# Altium schematic symbol library SparkFun-Switches.SCHLIB: 119 symbols (part 4 of 4)
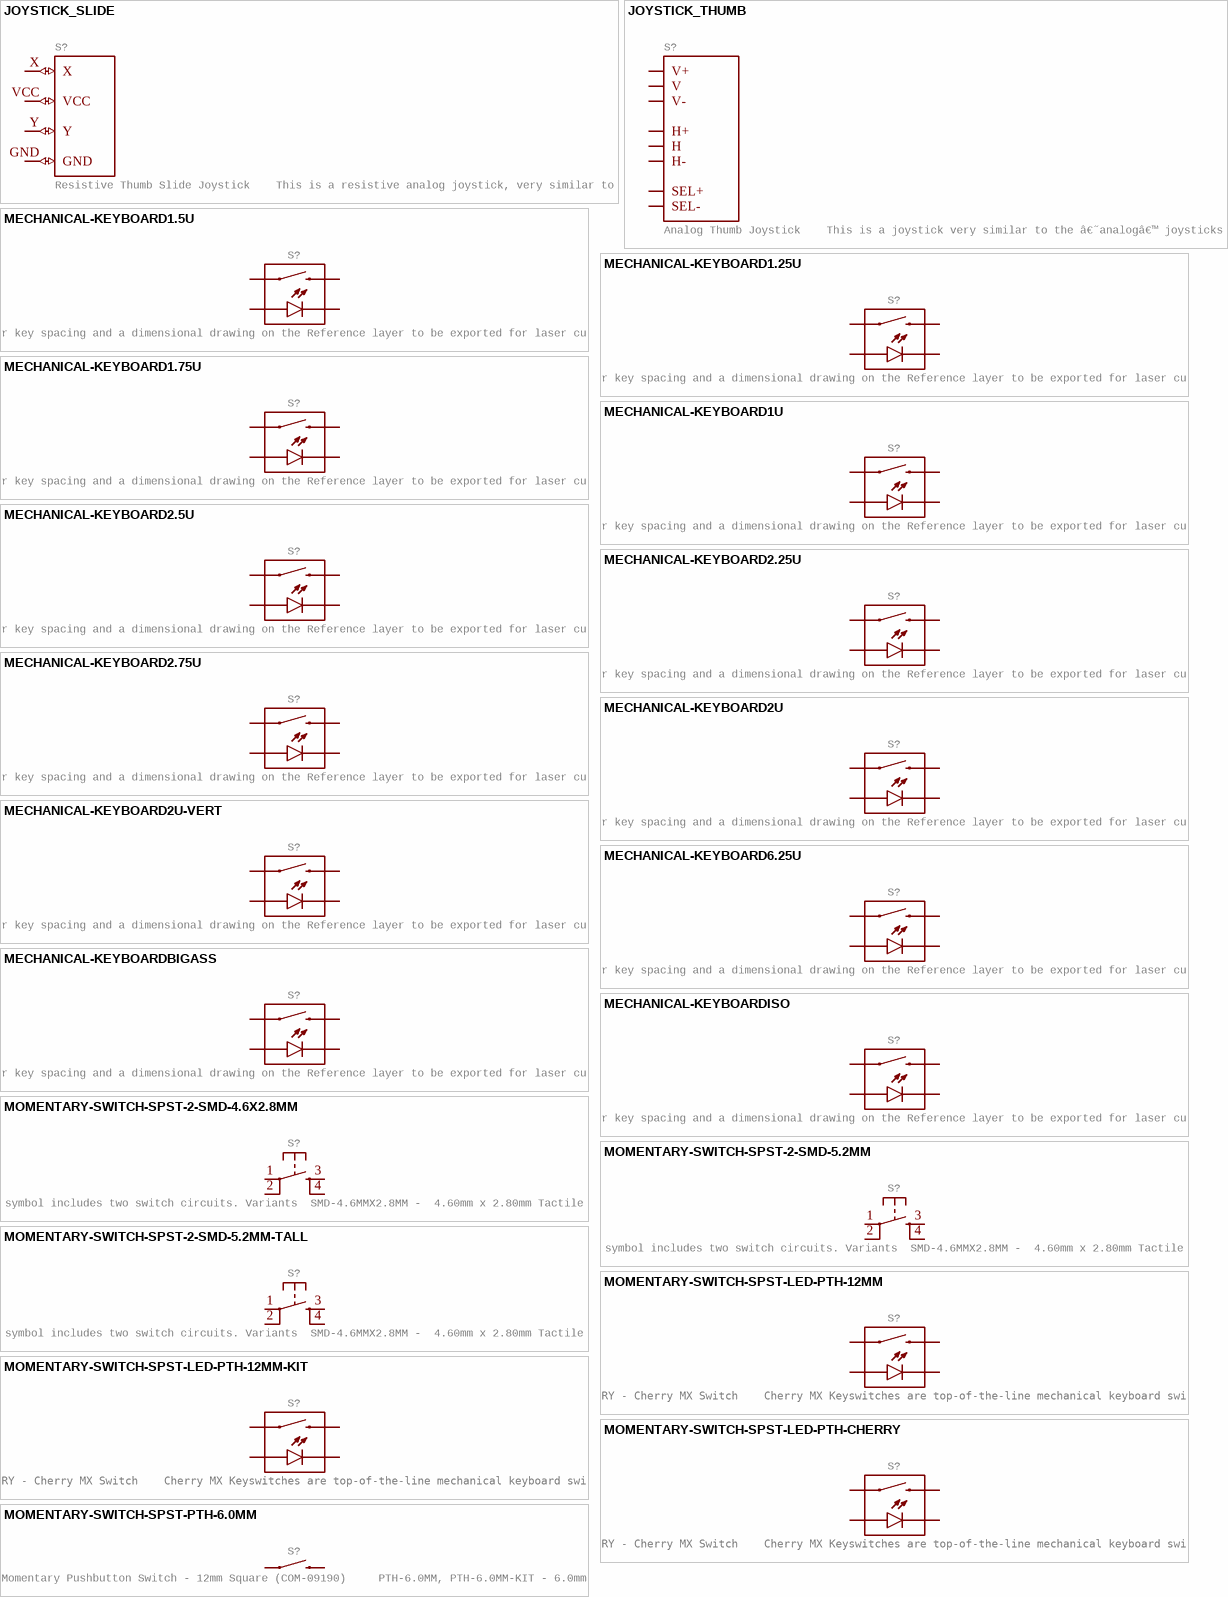
[diagram p38: symbols JOYSTICK_SLIDE to MOMENTARY-SWITCH-SPST-PTH-6.0MM]

## MOMENTARY-SWITCH-SPST-LED-PTH-12MM-KIT
designator S?, comment Momentary Switch (Pushbutton) - SPST - w/ LED    Normally-open (NO) SPST momentary switches (buttons, pushbuttons), with a built-in LED. Variants  PTH-CHERRY - Cherry MX Switch    Cherry MX Keyswitches are top-of-the-line mechanical keyboard switches. Theyâ€™re satisfyingly â€œclickyâ€, reliable up to tens-of-millions of key presses, and a standard in gaming and programming keyboards across the globe. This â€˜blueâ€™ version Cherry MX Switch is favored by most due to its secondary internal actuator making it less likely to â€œdouble-tap.â€ If you are looking for a noticeably audible and high-quality key switch, this is the perfect option for you! Cherry MX Switch (COM-13834)  Cherry MX Switch Breakout (BOB-13773)     PTH-12MM and PTH-12MM-KIT - 12mm Illuminated LED    KIT variant is for soldering kits. There is no tStop (covering up the top side of the pads with mask). This helps the beginner see which side they should be soldering too. LED Tactile Button Breakout (BOB-10467)  LED Tactile Button - Red (COM-10442)  LED Tactile Button - Blue (COM-10443)  LED Tactile Button - Green (COM-10440)  LED Tactile Button - Orange (COM-10441)  LED Tactile Button - White (COM-10439)
GateName_1: G$1; SymbolName_1: SWITCH-MOMENTARY-LED; DeviceName: -PTH-12MM-KIT; DeviceSetName: MOMENTARY-SWITCH-SPST-LED; PROD_ID: SWCH-11758; LibraryName: SparkFun-Switches; Package: TACTILE_SWITCH_LED_PTH_12MM_KIT; SF_SKU: COM-10442
footprint TACTILE_SWITCH_LED_PTH_12MM_KIT
pins: 2, 4 1, A, C

## MOMENTARY-SWITCH-SPST-LED-PTH-CHERRY
designator S?, comment Momentary Switch (Pushbutton) - SPST - w/ LED    Normally-open (NO) SPST momentary switches (buttons, pushbuttons), with a built-in LED. Variants  PTH-CHERRY - Cherry MX Switch    Cherry MX Keyswitches are top-of-the-line mechanical keyboard switches. Theyâ€™re satisfyingly â€œclickyâ€, reliable up to tens-of-millions of key presses, and a standard in gaming and programming keyboards across the globe. This â€˜blueâ€™ version Cherry MX Switch is favored by most due to its secondary internal actuator making it less likely to â€œdouble-tap.â€ If you are looking for a noticeably audible and high-quality key switch, this is the perfect option for you! Cherry MX Switch (COM-13834)  Cherry MX Switch Breakout (BOB-13773)     PTH-12MM and PTH-12MM-KIT - 12mm Illuminated LED    KIT variant is for soldering kits. There is no tStop (covering up the top side of the pads with mask). This helps the beginner see which side they should be soldering too. LED Tactile Button Breakout (BOB-10467)  LED Tactile Button - Red (COM-10442)  LED Tactile Button - Blue (COM-10443)  LED Tactile Button - Green (COM-10440)  LED Tactile Button - Orange (COM-10441)  LED Tactile Button - White (COM-10439)
GateName_1: G$1; SymbolName_1: SWITCH-MOMENTARY-LED; DeviceName: -PTH-CHERRY; DeviceSetName: MOMENTARY-SWITCH-SPST-LED; LibraryName: SparkFun-Switches; Package: CHERRY-MX-LED; SF_ID: COM-13834
footprint CHERRY-MX-LED
pins: A, K C, S1 1, S2 2

## MOMENTARY-SWITCH-SPST-PTH-6.0MM
designator S?, comment Momentary Switch (Pushbutton) - SPST    Normally-open (NO) SPST momentary switches (buttons, pushbuttons). Variants  PTH-12MM - 12mm square, through-hole  Momentary Pushbutton Switch - 12mm Square (COM-09190)     PTH-6.0MM, PTH-6.0MM-KIT - 6.0mm square, through-hole  Mini Pushbutton Switch (COM-00097)  KIT package intended for soldering kit's - only one side of pads' copper is exposed.     PTH-RIGHT-ANGLE-KIT - Right-angle, through-hole  Right Angle Tactile Button - Used on SparkFun BigTime Watch Kit     SMD-12MM - 12mm square, surface-mount  Tactile Button - SMD (12mm) (COM-12993)  Used on SparkFun PicoBoard     SMD-4.5MM - 4.5mm Square Trackball Switch  Used on SparkFun Blackberry Trackballer Breakout     SMD-4.6MMX2.8MM -  4.60mm x 2.80mm, surface mount  Used on SparkFun Pro Micro - RP2040     SMD-5.2MM, SMD-5.2-REDUNDANT - 5.2mm square, surface-mount  Mini Pushbutton Switch - SMD (COM-08720)  Used on Arduino Pro Mini  REDUNDANT package connects both switch circuits together     SMD-6.0X3.5MM - 6.0 x 3.5mm, surface mount  Momentary Reset Switch SMD (COM-08229)     SMD-6.2MM-TALL - 6.2mm square, surface mount  Tactile Button - SMD (6mm)  Used on SparkFun Digital Sandbox     SMD-RIGHT-ANGLE - Right-angle, surface mount  Used on SparkFun Block for IntelÂ® Edison - Arduino
GateName_1: G$1; SymbolName_1: SWITCH-MOMENTARY-2; DeviceName: -PTH-6.0MM; DeviceSetName: MOMENTARY-SWITCH-SPST; PROD_ID: SWCH-08441; LibraryName: SparkFun-Switches; Package: TACTILE_SWITCH_PTH_6.0MM; SF_SKU: COM-00097
footprint TACTILE_SWITCH_PTH_6.0MM
pins: 1, 3 2

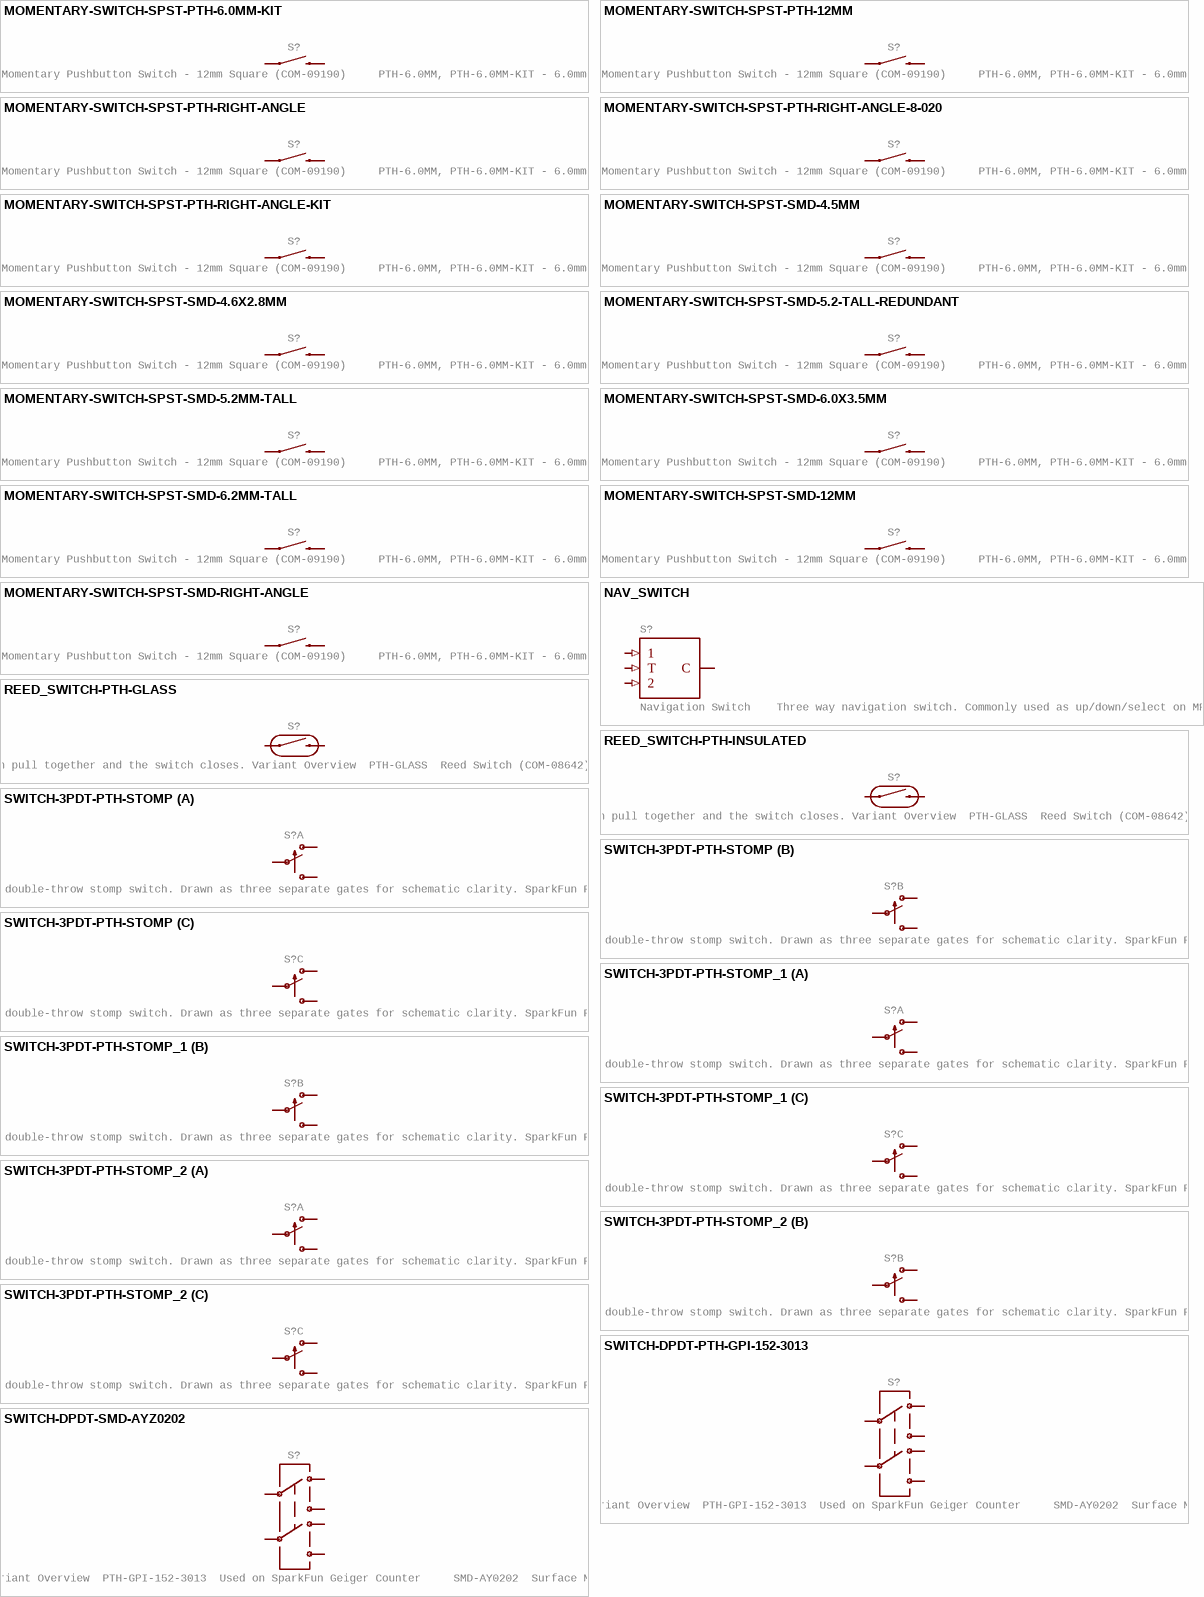
[diagram p34: symbols MOMENTARY-SWITCH-SPST-PTH-6.0MM-KIT to SWITCH-DPDT-SMD-AYZ0202]

## MOMENTARY-SWITCH-SPST-PTH-6.0MM-KIT
designator S?, comment Momentary Switch (Pushbutton) - SPST    Normally-open (NO) SPST momentary switches (buttons, pushbuttons). Variants  PTH-12MM - 12mm square, through-hole  Momentary Pushbutton Switch - 12mm Square (COM-09190)     PTH-6.0MM, PTH-6.0MM-KIT - 6.0mm square, through-hole  Mini Pushbutton Switch (COM-00097)  KIT package intended for soldering kit's - only one side of pads' copper is exposed.     PTH-RIGHT-ANGLE-KIT - Right-angle, through-hole  Right Angle Tactile Button - Used on SparkFun BigTime Watch Kit     SMD-12MM - 12mm square, surface-mount  Tactile Button - SMD (12mm) (COM-12993)  Used on SparkFun PicoBoard     SMD-4.5MM - 4.5mm Square Trackball Switch  Used on SparkFun Blackberry Trackballer Breakout     SMD-4.6MMX2.8MM -  4.60mm x 2.80mm, surface mount  Used on SparkFun Pro Micro - RP2040     SMD-5.2MM, SMD-5.2-REDUNDANT - 5.2mm square, surface-mount  Mini Pushbutton Switch - SMD (COM-08720)  Used on Arduino Pro Mini  REDUNDANT package connects both switch circuits together     SMD-6.0X3.5MM - 6.0 x 3.5mm, surface mount  Momentary Reset Switch SMD (COM-08229)     SMD-6.2MM-TALL - 6.2mm square, surface mount  Tactile Button - SMD (6mm)  Used on SparkFun Digital Sandbox     SMD-RIGHT-ANGLE - Right-angle, surface mount  Used on SparkFun Block for IntelÂ® Edison - Arduino
GateName_1: G$1; SymbolName_1: SWITCH-MOMENTARY-2; DeviceName: -PTH-6.0MM-KIT; DeviceSetName: MOMENTARY-SWITCH-SPST; PROD_ID: SWCH-08441; LibraryName: SparkFun-Switches; Package: TACTILE_SWITCH_PTH_6.0MM_KIT; SF_SKU: COM-00097
footprint TACTILE_SWITCH_PTH_6.0MM_KIT
pins: 1, 3 2

## MOMENTARY-SWITCH-SPST-PTH-12MM
designator S?, comment Momentary Switch (Pushbutton) - SPST    Normally-open (NO) SPST momentary switches (buttons, pushbuttons). Variants  PTH-12MM - 12mm square, through-hole  Momentary Pushbutton Switch - 12mm Square (COM-09190)     PTH-6.0MM, PTH-6.0MM-KIT - 6.0mm square, through-hole  Mini Pushbutton Switch (COM-00097)  KIT package intended for soldering kit's - only one side of pads' copper is exposed.     PTH-RIGHT-ANGLE-KIT - Right-angle, through-hole  Right Angle Tactile Button - Used on SparkFun BigTime Watch Kit     SMD-12MM - 12mm square, surface-mount  Tactile Button - SMD (12mm) (COM-12993)  Used on SparkFun PicoBoard     SMD-4.5MM - 4.5mm Square Trackball Switch  Used on SparkFun Blackberry Trackballer Breakout     SMD-4.6MMX2.8MM -  4.60mm x 2.80mm, surface mount  Used on SparkFun Pro Micro - RP2040     SMD-5.2MM, SMD-5.2-REDUNDANT - 5.2mm square, surface-mount  Mini Pushbutton Switch - SMD (COM-08720)  Used on Arduino Pro Mini  REDUNDANT package connects both switch circuits together     SMD-6.0X3.5MM - 6.0 x 3.5mm, surface mount  Momentary Reset Switch SMD (COM-08229)     SMD-6.2MM-TALL - 6.2mm square, surface mount  Tactile Button - SMD (6mm)  Used on SparkFun Digital Sandbox     SMD-RIGHT-ANGLE - Right-angle, surface mount  Used on SparkFun Block for IntelÂ® Edison - Arduino
GateName_1: G$1; SymbolName_1: SWITCH-MOMENTARY-2; DeviceName: -PTH-12MM; DeviceSetName: MOMENTARY-SWITCH-SPST; PROD_ID: SWCH-09185; LibraryName: SparkFun-Switches; Package: TACTILE_SWITCH_PTH_12MM; SF_SKU: COM-09190
footprint TACTILE_SWITCH_PTH_12MM
pins: 1, 3 2

## MOMENTARY-SWITCH-SPST-PTH-RIGHT-ANGLE
designator S?, comment Momentary Switch (Pushbutton) - SPST    Normally-open (NO) SPST momentary switches (buttons, pushbuttons). Variants  PTH-12MM - 12mm square, through-hole  Momentary Pushbutton Switch - 12mm Square (COM-09190)     PTH-6.0MM, PTH-6.0MM-KIT - 6.0mm square, through-hole  Mini Pushbutton Switch (COM-00097)  KIT package intended for soldering kit's - only one side of pads' copper is exposed.     PTH-RIGHT-ANGLE-KIT - Right-angle, through-hole  Right Angle Tactile Button - Used on SparkFun BigTime Watch Kit     SMD-12MM - 12mm square, surface-mount  Tactile Button - SMD (12mm) (COM-12993)  Used on SparkFun PicoBoard     SMD-4.5MM - 4.5mm Square Trackball Switch  Used on SparkFun Blackberry Trackballer Breakout     SMD-4.6MMX2.8MM -  4.60mm x 2.80mm, surface mount  Used on SparkFun Pro Micro - RP2040     SMD-5.2MM, SMD-5.2-REDUNDANT - 5.2mm square, surface-mount  Mini Pushbutton Switch - SMD (COM-08720)  Used on Arduino Pro Mini  REDUNDANT package connects both switch circuits together     SMD-6.0X3.5MM - 6.0 x 3.5mm, surface mount  Momentary Reset Switch SMD (COM-08229)     SMD-6.2MM-TALL - 6.2mm square, surface mount  Tactile Button - SMD (6mm)  Used on SparkFun Digital Sandbox     SMD-RIGHT-ANGLE - Right-angle, surface mount  Used on SparkFun Block for IntelÂ® Edison - Arduino
GateName_1: G$1; SymbolName_1: SWITCH-MOMENTARY-2; DeviceName: -PTH-RIGHT-ANGLE; DeviceSetName: MOMENTARY-SWITCH-SPST; PROD_ID: CONN-10672; SF_SKU: COM-10791; LibraryName: SparkFun-Switches; Package: TACTILE_SWITCH_PTH_RIGHT_ANGLE
footprint TACTILE_SWITCH_PTH_RIGHT_ANGLE
pins: 1, 2

## MOMENTARY-SWITCH-SPST-PTH-RIGHT-ANGLE-8-020
designator S?, comment Momentary Switch (Pushbutton) - SPST    Normally-open (NO) SPST momentary switches (buttons, pushbuttons). Variants  PTH-12MM - 12mm square, through-hole  Momentary Pushbutton Switch - 12mm Square (COM-09190)     PTH-6.0MM, PTH-6.0MM-KIT - 6.0mm square, through-hole  Mini Pushbutton Switch (COM-00097)  KIT package intended for soldering kit's - only one side of pads' copper is exposed.     PTH-RIGHT-ANGLE-KIT - Right-angle, through-hole  Right Angle Tactile Button - Used on SparkFun BigTime Watch Kit     SMD-12MM - 12mm square, surface-mount  Tactile Button - SMD (12mm) (COM-12993)  Used on SparkFun PicoBoard     SMD-4.5MM - 4.5mm Square Trackball Switch  Used on SparkFun Blackberry Trackballer Breakout     SMD-4.6MMX2.8MM -  4.60mm x 2.80mm, surface mount  Used on SparkFun Pro Micro - RP2040     SMD-5.2MM, SMD-5.2-REDUNDANT - 5.2mm square, surface-mount  Mini Pushbutton Switch - SMD (COM-08720)  Used on Arduino Pro Mini  REDUNDANT package connects both switch circuits together     SMD-6.0X3.5MM - 6.0 x 3.5mm, surface mount  Momentary Reset Switch SMD (COM-08229)     SMD-6.2MM-TALL - 6.2mm square, surface mount  Tactile Button - SMD (6mm)  Used on SparkFun Digital Sandbox     SMD-RIGHT-ANGLE - Right-angle, surface mount  Used on SparkFun Block for IntelÂ® Edison - Arduino
GateName_1: G$1; SymbolName_1: SWITCH-MOMENTARY-2; DeviceName: -PTH-RIGHT-ANGLE-8-020; DeviceSetName: MOMENTARY-SWITCH-SPST; PROD_ID: SWCH-13896; LibraryName: SparkFun-Switches; Package: TACTILE_SWITCH_PTH_RA_8-020
footprint TACTILE_SWITCH_PTH_RA_8-020
pins: 1, 2

## MOMENTARY-SWITCH-SPST-PTH-RIGHT-ANGLE-KIT
designator S?, comment Momentary Switch (Pushbutton) - SPST    Normally-open (NO) SPST momentary switches (buttons, pushbuttons). Variants  PTH-12MM - 12mm square, through-hole  Momentary Pushbutton Switch - 12mm Square (COM-09190)     PTH-6.0MM, PTH-6.0MM-KIT - 6.0mm square, through-hole  Mini Pushbutton Switch (COM-00097)  KIT package intended for soldering kit's - only one side of pads' copper is exposed.     PTH-RIGHT-ANGLE-KIT - Right-angle, through-hole  Right Angle Tactile Button - Used on SparkFun BigTime Watch Kit     SMD-12MM - 12mm square, surface-mount  Tactile Button - SMD (12mm) (COM-12993)  Used on SparkFun PicoBoard     SMD-4.5MM - 4.5mm Square Trackball Switch  Used on SparkFun Blackberry Trackballer Breakout     SMD-4.6MMX2.8MM -  4.60mm x 2.80mm, surface mount  Used on SparkFun Pro Micro - RP2040     SMD-5.2MM, SMD-5.2-REDUNDANT - 5.2mm square, surface-mount  Mini Pushbutton Switch - SMD (COM-08720)  Used on Arduino Pro Mini  REDUNDANT package connects both switch circuits together     SMD-6.0X3.5MM - 6.0 x 3.5mm, surface mount  Momentary Reset Switch SMD (COM-08229)     SMD-6.2MM-TALL - 6.2mm square, surface mount  Tactile Button - SMD (6mm)  Used on SparkFun Digital Sandbox     SMD-RIGHT-ANGLE - Right-angle, surface mount  Used on SparkFun Block for IntelÂ® Edison - Arduino
GateName_1: G$1; SymbolName_1: SWITCH-MOMENTARY-2; DeviceName: -PTH-RIGHT-ANGLE-KIT; DeviceSetName: MOMENTARY-SWITCH-SPST; PROD_ID: CONN-10672; SF_SKU: COM-10791; LibraryName: SparkFun-Switches; Package: TACTILE_SWITCH_PTH_RIGHT_ANGLE_KIT
footprint TACTILE_SWITCH_PTH_RIGHT_ANGLE_KIT
pins: 1, 2

## MOMENTARY-SWITCH-SPST-SMD-4.5MM
designator S?, comment Momentary Switch (Pushbutton) - SPST    Normally-open (NO) SPST momentary switches (buttons, pushbuttons). Variants  PTH-12MM - 12mm square, through-hole  Momentary Pushbutton Switch - 12mm Square (COM-09190)     PTH-6.0MM, PTH-6.0MM-KIT - 6.0mm square, through-hole  Mini Pushbutton Switch (COM-00097)  KIT package intended for soldering kit's - only one side of pads' copper is exposed.     PTH-RIGHT-ANGLE-KIT - Right-angle, through-hole  Right Angle Tactile Button - Used on SparkFun BigTime Watch Kit     SMD-12MM - 12mm square, surface-mount  Tactile Button - SMD (12mm) (COM-12993)  Used on SparkFun PicoBoard     SMD-4.5MM - 4.5mm Square Trackball Switch  Used on SparkFun Blackberry Trackballer Breakout     SMD-4.6MMX2.8MM -  4.60mm x 2.80mm, surface mount  Used on SparkFun Pro Micro - RP2040     SMD-5.2MM, SMD-5.2-REDUNDANT - 5.2mm square, surface-mount  Mini Pushbutton Switch - SMD (COM-08720)  Used on Arduino Pro Mini  REDUNDANT package connects both switch circuits together     SMD-6.0X3.5MM - 6.0 x 3.5mm, surface mount  Momentary Reset Switch SMD (COM-08229)     SMD-6.2MM-TALL - 6.2mm square, surface mount  Tactile Button - SMD (6mm)  Used on SparkFun Digital Sandbox     SMD-RIGHT-ANGLE - Right-angle, surface mount  Used on SparkFun Block for IntelÂ® Edison - Arduino
GateName_1: G$1; SymbolName_1: SWITCH-MOMENTARY-2; DeviceName: -SMD-4.5MM; DeviceSetName: MOMENTARY-SWITCH-SPST; PROD_ID: SWCH-09213; LibraryName: SparkFun-Switches; Package: TACTILE_SWITCH_SMD_4.5MM
footprint TACTILE_SWITCH_SMD_4.5MM
pins: 1,4 2, 2,3 1

## MOMENTARY-SWITCH-SPST-SMD-4.6X2.8MM
designator S?, comment Momentary Switch (Pushbutton) - SPST    Normally-open (NO) SPST momentary switches (buttons, pushbuttons). Variants  PTH-12MM - 12mm square, through-hole  Momentary Pushbutton Switch - 12mm Square (COM-09190)     PTH-6.0MM, PTH-6.0MM-KIT - 6.0mm square, through-hole  Mini Pushbutton Switch (COM-00097)  KIT package intended for soldering kit's - only one side of pads' copper is exposed.     PTH-RIGHT-ANGLE-KIT - Right-angle, through-hole  Right Angle Tactile Button - Used on SparkFun BigTime Watch Kit     SMD-12MM - 12mm square, surface-mount  Tactile Button - SMD (12mm) (COM-12993)  Used on SparkFun PicoBoard     SMD-4.5MM - 4.5mm Square Trackball Switch  Used on SparkFun Blackberry Trackballer Breakout     SMD-4.6MMX2.8MM -  4.60mm x 2.80mm, surface mount  Used on SparkFun Pro Micro - RP2040     SMD-5.2MM, SMD-5.2-REDUNDANT - 5.2mm square, surface-mount  Mini Pushbutton Switch - SMD (COM-08720)  Used on Arduino Pro Mini  REDUNDANT package connects both switch circuits together     SMD-6.0X3.5MM - 6.0 x 3.5mm, surface mount  Momentary Reset Switch SMD (COM-08229)     SMD-6.2MM-TALL - 6.2mm square, surface mount  Tactile Button - SMD (6mm)  Used on SparkFun Digital Sandbox     SMD-RIGHT-ANGLE - Right-angle, surface mount  Used on SparkFun Block for IntelÂ® Edison - Arduino
GateName_1: G$1; SymbolName_1: SWITCH-MOMENTARY-2; DeviceName: -SMD-4.6X2.8MM; DeviceSetName: MOMENTARY-SWITCH-SPST; PROD_ID: SWCH-15606; LibraryName: SparkFun-Switches; Package: TACTILE_SWITCH_SMD_4.6X2.8MM
footprint TACTILE_SWITCH_SMD_4.6X2.8MM
pins: 1,2 1, 3,4 2

## MOMENTARY-SWITCH-SPST-SMD-5.2-TALL-REDUNDANT
designator S?, comment Momentary Switch (Pushbutton) - SPST    Normally-open (NO) SPST momentary switches (buttons, pushbuttons). Variants  PTH-12MM - 12mm square, through-hole  Momentary Pushbutton Switch - 12mm Square (COM-09190)     PTH-6.0MM, PTH-6.0MM-KIT - 6.0mm square, through-hole  Mini Pushbutton Switch (COM-00097)  KIT package intended for soldering kit's - only one side of pads' copper is exposed.     PTH-RIGHT-ANGLE-KIT - Right-angle, through-hole  Right Angle Tactile Button - Used on SparkFun BigTime Watch Kit     SMD-12MM - 12mm square, surface-mount  Tactile Button - SMD (12mm) (COM-12993)  Used on SparkFun PicoBoard     SMD-4.5MM - 4.5mm Square Trackball Switch  Used on SparkFun Blackberry Trackballer Breakout     SMD-4.6MMX2.8MM -  4.60mm x 2.80mm, surface mount  Used on SparkFun Pro Micro - RP2040     SMD-5.2MM, SMD-5.2-REDUNDANT - 5.2mm square, surface-mount  Mini Pushbutton Switch - SMD (COM-08720)  Used on Arduino Pro Mini  REDUNDANT package connects both switch circuits together     SMD-6.0X3.5MM - 6.0 x 3.5mm, surface mount  Momentary Reset Switch SMD (COM-08229)     SMD-6.2MM-TALL - 6.2mm square, surface mount  Tactile Button - SMD (6mm)  Used on SparkFun Digital Sandbox     SMD-RIGHT-ANGLE - Right-angle, surface mount  Used on SparkFun Block for IntelÂ® Edison - Arduino
GateName_1: G$1; SymbolName_1: SWITCH-MOMENTARY-2; DeviceName: -SMD-5.2-TALL-REDUNDANT; DeviceSetName: MOMENTARY-SWITCH-SPST; PROD_ID: SWCH-14139; LibraryName: SparkFun-Switches; Package: TACTILE_SWITCH_SMD_5.2MM
footprint TACTILE_SWITCH_SMD_5.2MM
pins: 1,2 1, 3,4 2

## MOMENTARY-SWITCH-SPST-SMD-5.2MM-TALL
designator S?, comment Momentary Switch (Pushbutton) - SPST    Normally-open (NO) SPST momentary switches (buttons, pushbuttons). Variants  PTH-12MM - 12mm square, through-hole  Momentary Pushbutton Switch - 12mm Square (COM-09190)     PTH-6.0MM, PTH-6.0MM-KIT - 6.0mm square, through-hole  Mini Pushbutton Switch (COM-00097)  KIT package intended for soldering kit's - only one side of pads' copper is exposed.     PTH-RIGHT-ANGLE-KIT - Right-angle, through-hole  Right Angle Tactile Button - Used on SparkFun BigTime Watch Kit     SMD-12MM - 12mm square, surface-mount  Tactile Button - SMD (12mm) (COM-12993)  Used on SparkFun PicoBoard     SMD-4.5MM - 4.5mm Square Trackball Switch  Used on SparkFun Blackberry Trackballer Breakout     SMD-4.6MMX2.8MM -  4.60mm x 2.80mm, surface mount  Used on SparkFun Pro Micro - RP2040     SMD-5.2MM, SMD-5.2-REDUNDANT - 5.2mm square, surface-mount  Mini Pushbutton Switch - SMD (COM-08720)  Used on Arduino Pro Mini  REDUNDANT package connects both switch circuits together     SMD-6.0X3.5MM - 6.0 x 3.5mm, surface mount  Momentary Reset Switch SMD (COM-08229)     SMD-6.2MM-TALL - 6.2mm square, surface mount  Tactile Button - SMD (6mm)  Used on SparkFun Digital Sandbox     SMD-RIGHT-ANGLE - Right-angle, surface mount  Used on SparkFun Block for IntelÂ® Edison - Arduino
GateName_1: G$1; SymbolName_1: SWITCH-MOMENTARY-2; DeviceName: -SMD-5.2MM-TALL; DeviceSetName: MOMENTARY-SWITCH-SPST; PROD_ID: SWCH-14139; LibraryName: SparkFun-Switches; Package: TACTILE_SWITCH_SMD_5.2MM
footprint TACTILE_SWITCH_SMD_5.2MM
pins: 1, 3 2

## MOMENTARY-SWITCH-SPST-SMD-6.0X3.5MM
designator S?, comment Momentary Switch (Pushbutton) - SPST    Normally-open (NO) SPST momentary switches (buttons, pushbuttons). Variants  PTH-12MM - 12mm square, through-hole  Momentary Pushbutton Switch - 12mm Square (COM-09190)     PTH-6.0MM, PTH-6.0MM-KIT - 6.0mm square, through-hole  Mini Pushbutton Switch (COM-00097)  KIT package intended for soldering kit's - only one side of pads' copper is exposed.     PTH-RIGHT-ANGLE-KIT - Right-angle, through-hole  Right Angle Tactile Button - Used on SparkFun BigTime Watch Kit     SMD-12MM - 12mm square, surface-mount  Tactile Button - SMD (12mm) (COM-12993)  Used on SparkFun PicoBoard     SMD-4.5MM - 4.5mm Square Trackball Switch  Used on SparkFun Blackberry Trackballer Breakout     SMD-4.6MMX2.8MM -  4.60mm x 2.80mm, surface mount  Used on SparkFun Pro Micro - RP2040     SMD-5.2MM, SMD-5.2-REDUNDANT - 5.2mm square, surface-mount  Mini Pushbutton Switch - SMD (COM-08720)  Used on Arduino Pro Mini  REDUNDANT package connects both switch circuits together     SMD-6.0X3.5MM - 6.0 x 3.5mm, surface mount  Momentary Reset Switch SMD (COM-08229)     SMD-6.2MM-TALL - 6.2mm square, surface mount  Tactile Button - SMD (6mm)  Used on SparkFun Digital Sandbox     SMD-RIGHT-ANGLE - Right-angle, surface mount  Used on SparkFun Block for IntelÂ® Edison - Arduino
GateName_1: G$1; SymbolName_1: SWITCH-MOMENTARY-2; DeviceName: -SMD-6.0X3.5MM; DeviceSetName: MOMENTARY-SWITCH-SPST; PROD_ID: SWCH-14278; LibraryName: SparkFun-Switches; Package: TACTILE_SWITCH_SMD_6.0X3.5MM; SF_SKU: COM-08229
footprint TACTILE_SWITCH_SMD_6.0X3.5MM
pins: 1, 2

## MOMENTARY-SWITCH-SPST-SMD-6.2MM-TALL
designator S?, comment Momentary Switch (Pushbutton) - SPST    Normally-open (NO) SPST momentary switches (buttons, pushbuttons). Variants  PTH-12MM - 12mm square, through-hole  Momentary Pushbutton Switch - 12mm Square (COM-09190)     PTH-6.0MM, PTH-6.0MM-KIT - 6.0mm square, through-hole  Mini Pushbutton Switch (COM-00097)  KIT package intended for soldering kit's - only one side of pads' copper is exposed.     PTH-RIGHT-ANGLE-KIT - Right-angle, through-hole  Right Angle Tactile Button - Used on SparkFun BigTime Watch Kit     SMD-12MM - 12mm square, surface-mount  Tactile Button - SMD (12mm) (COM-12993)  Used on SparkFun PicoBoard     SMD-4.5MM - 4.5mm Square Trackball Switch  Used on SparkFun Blackberry Trackballer Breakout     SMD-4.6MMX2.8MM -  4.60mm x 2.80mm, surface mount  Used on SparkFun Pro Micro - RP2040     SMD-5.2MM, SMD-5.2-REDUNDANT - 5.2mm square, surface-mount  Mini Pushbutton Switch - SMD (COM-08720)  Used on Arduino Pro Mini  REDUNDANT package connects both switch circuits together     SMD-6.0X3.5MM - 6.0 x 3.5mm, surface mount  Momentary Reset Switch SMD (COM-08229)     SMD-6.2MM-TALL - 6.2mm square, surface mount  Tactile Button - SMD (6mm)  Used on SparkFun Digital Sandbox     SMD-RIGHT-ANGLE - Right-angle, surface mount  Used on SparkFun Block for IntelÂ® Edison - Arduino
GateName_1: G$1; SymbolName_1: SWITCH-MOMENTARY-2; DeviceName: -SMD-6.2MM-TALL; DeviceSetName: MOMENTARY-SWITCH-SPST; PROD_ID: SWCH-11966; SF_SKU: COM-12992; LibraryName: SparkFun-Switches; Package: TACTILE_SWITCH_SMD_6.2MM_TALL
footprint TACTILE_SWITCH_SMD_6.2MM_TALL
pins: A2 1, B2 2

## MOMENTARY-SWITCH-SPST-SMD-12MM
designator S?, comment Momentary Switch (Pushbutton) - SPST    Normally-open (NO) SPST momentary switches (buttons, pushbuttons). Variants  PTH-12MM - 12mm square, through-hole  Momentary Pushbutton Switch - 12mm Square (COM-09190)     PTH-6.0MM, PTH-6.0MM-KIT - 6.0mm square, through-hole  Mini Pushbutton Switch (COM-00097)  KIT package intended for soldering kit's - only one side of pads' copper is exposed.     PTH-RIGHT-ANGLE-KIT - Right-angle, through-hole  Right Angle Tactile Button - Used on SparkFun BigTime Watch Kit     SMD-12MM - 12mm square, surface-mount  Tactile Button - SMD (12mm) (COM-12993)  Used on SparkFun PicoBoard     SMD-4.5MM - 4.5mm Square Trackball Switch  Used on SparkFun Blackberry Trackballer Breakout     SMD-4.6MMX2.8MM -  4.60mm x 2.80mm, surface mount  Used on SparkFun Pro Micro - RP2040     SMD-5.2MM, SMD-5.2-REDUNDANT - 5.2mm square, surface-mount  Mini Pushbutton Switch - SMD (COM-08720)  Used on Arduino Pro Mini  REDUNDANT package connects both switch circuits together     SMD-6.0X3.5MM - 6.0 x 3.5mm, surface mount  Momentary Reset Switch SMD (COM-08229)     SMD-6.2MM-TALL - 6.2mm square, surface mount  Tactile Button - SMD (6mm)  Used on SparkFun Digital Sandbox     SMD-RIGHT-ANGLE - Right-angle, surface mount  Used on SparkFun Block for IntelÂ® Edison - Arduino
GateName_1: G$1; SymbolName_1: SWITCH-MOMENTARY-2; DeviceName: -SMD-12MM; DeviceSetName: MOMENTARY-SWITCH-SPST; PROD_ID: SWCH-11967; LibraryName: SparkFun-Switches; Package: TACTILE_SWITCH_SMD_12MM; SF_SKU: COM-12993
footprint TACTILE_SWITCH_SMD_12MM
pins: 1, 3 2

## MOMENTARY-SWITCH-SPST-SMD-RIGHT-ANGLE
designator S?, comment Momentary Switch (Pushbutton) - SPST    Normally-open (NO) SPST momentary switches (buttons, pushbuttons). Variants  PTH-12MM - 12mm square, through-hole  Momentary Pushbutton Switch - 12mm Square (COM-09190)     PTH-6.0MM, PTH-6.0MM-KIT - 6.0mm square, through-hole  Mini Pushbutton Switch (COM-00097)  KIT package intended for soldering kit's - only one side of pads' copper is exposed.     PTH-RIGHT-ANGLE-KIT - Right-angle, through-hole  Right Angle Tactile Button - Used on SparkFun BigTime Watch Kit     SMD-12MM - 12mm square, surface-mount  Tactile Button - SMD (12mm) (COM-12993)  Used on SparkFun PicoBoard     SMD-4.5MM - 4.5mm Square Trackball Switch  Used on SparkFun Blackberry Trackballer Breakout     SMD-4.6MMX2.8MM -  4.60mm x 2.80mm, surface mount  Used on SparkFun Pro Micro - RP2040     SMD-5.2MM, SMD-5.2-REDUNDANT - 5.2mm square, surface-mount  Mini Pushbutton Switch - SMD (COM-08720)  Used on Arduino Pro Mini  REDUNDANT package connects both switch circuits together     SMD-6.0X3.5MM - 6.0 x 3.5mm, surface mount  Momentary Reset Switch SMD (COM-08229)     SMD-6.2MM-TALL - 6.2mm square, surface mount  Tactile Button - SMD (6mm)  Used on SparkFun Digital Sandbox     SMD-RIGHT-ANGLE - Right-angle, surface mount  Used on SparkFun Block for IntelÂ® Edison - Arduino
GateName_1: G$1; SymbolName_1: SWITCH-MOMENTARY-2; DeviceName: -SMD-RIGHT-ANGLE; DeviceSetName: MOMENTARY-SWITCH-SPST; PROD_ID: COMP-12265; LibraryName: SparkFun-Switches; Package: TACTILE_SWITCH_SMD_RIGHT_ANGLE
footprint TACTILE_SWITCH_SMD_RIGHT_ANGLE
pins: 1, 2

## NAV_SWITCH
designator S?, comment Navigation Switch    Three way navigation switch. Commonly used as up/down/select on MP3 players. Schematic element and footprint production proven. SparkFun Products  Surface Mount Navigation Switch (COM-08184)  Used on SparkFun MP3 Trigger
GateName_1: G$1; SymbolName_1: NAV_SWITCH; PROD_ID: SWCH-08301; LibraryName: SparkFun-Switches; DeviceSetName: NAV_SWITCH; Package: NAV_SWITCH; SF_SKU: COM-08184
footprint NAV_SWITCH
pins: 1 (in), 2 (in), C (power), T (in)

## REED_SWITCH-PTH-GLASS
designator S?, comment Reed Switch    A reed switch is a magnetically-actuated switch. When the device is exposed to a magnetic field, the two ferrous materials inside the switch pull together and the switch closes. Variant Overview  PTH-GLASS  Reed Switch (COM-08642) - PTH reed switch w/ glass body (6.0 x 0.9 mm)     PTH-INSULATED  Reed Switch - Insulated (COM-10601) - PTH reed switch w/ insulated body (15.1 x 4.2 mm)
GateName_1: G$1; SymbolName_1: REED_SWITCH; DeviceName: -PTH-GLASS; PROD_ID: SWCH-09282; LibraryName: SparkFun-Switches; DeviceSetName: REED_SWITCH; Package: REED_SWITCH_GLASS; SF_SKU: COM-08642
footprint REED_SWITCH_GLASS
pins: P$1 1, P$2 2

## REED_SWITCH-PTH-INSULATED
designator S?, comment Reed Switch    A reed switch is a magnetically-actuated switch. When the device is exposed to a magnetic field, the two ferrous materials inside the switch pull together and the switch closes. Variant Overview  PTH-GLASS  Reed Switch (COM-08642) - PTH reed switch w/ glass body (6.0 x 0.9 mm)     PTH-INSULATED  Reed Switch - Insulated (COM-10601) - PTH reed switch w/ insulated body (15.1 x 4.2 mm)
GateName_1: G$1; SymbolName_1: REED_SWITCH; DeviceName: -PTH-INSULATED; PROD_ID: SWCH-10467; LibraryName: SparkFun-Switches; DeviceSetName: REED_SWITCH; Package: REED_SWITCH_PLASTIC; SF_SKU: COM-10601
footprint REED_SWITCH_PLASTIC
pins: P$1 1, P$2 2

## SWITCH-3PDT-PTH-STOMP
designator S?, comment 3-Pole, Double-Throw (3PDT) Switch    Three-pole, double-throw stomp switch. Drawn as three separate gates for schematic clarity. SparkFun Products  Used in SparkFun Proto Pedal (PRT-13124)
GateName_1: A; SymbolName_1: SW_SPDT_POL; GateName_2: B; GateName_3: C; DeviceName: -PTH-STOMP; DeviceSetName: SWITCH-3PDT; PROD_ID: SWCH-13197; SymbolName_2: SW_SPDT_POL; SymbolName_3: SW_SPDT_POL; LibraryName: SparkFun-Switches; Package: STOMP_SWITCH_3PDT
footprint STOMP_SWITCH_3PDT
part A pins: P$1 O, P$2 P, P$3 S
part B pins: P$4 O, P$5 P, P$6 S
part C pins: P$7 O, P$8 P, P$9 S

## SWITCH-3PDT-PTH-STOMP_1
designator S?, comment 3-Pole, Double-Throw (3PDT) Switch    Three-pole, double-throw stomp switch. Drawn as three separate gates for schematic clarity. SparkFun Products  Used in SparkFun Proto Pedal (PRT-13124)
GateName_1: A; SymbolName_1: SW_SPDT_POL; GateName_2: B; GateName_3: C; DeviceName: -PTH-STOMP; DeviceSetName: SWITCH-3PDT; PROD_ID: SWCH-13197; SymbolName_2: SW_SPDT_POL; SymbolName_3: SW_SPDT_POL; LibraryName: SparkFun-Switches; Package: STOMP_SWITCH_3PDT
footprint STOMP_SWITCH_3PDT
part A pins: P$1 O, P$2 P, P$3 S
part B pins: P$4 O, P$5 P, P$6 S
part C pins: P$7 O, P$8 P, P$9 S

## SWITCH-3PDT-PTH-STOMP_2
designator S?, comment 3-Pole, Double-Throw (3PDT) Switch    Three-pole, double-throw stomp switch. Drawn as three separate gates for schematic clarity. SparkFun Products  Used in SparkFun Proto Pedal (PRT-13124)
GateName_1: A; SymbolName_1: SW_SPDT_POL; GateName_2: B; GateName_3: C; DeviceName: -PTH-STOMP; DeviceSetName: SWITCH-3PDT; PROD_ID: SWCH-13197; SymbolName_2: SW_SPDT_POL; SymbolName_3: SW_SPDT_POL; LibraryName: SparkFun-Switches; Package: STOMP_SWITCH_3PDT
footprint STOMP_SWITCH_3PDT
part A pins: P$1 O, P$2 P, P$3 S
part B pins: P$4 O, P$5 P, P$6 S
part C pins: P$7 O, P$8 P, P$9 S

## SWITCH-DPDT-PTH-GPI-152-3013
designator S?, comment Double-Pole, Double-Throw (DPDT) Switch    Double-pole, double-throw switches. Variant Overview  PTH-GPI-152-3013  Used on SparkFun Geiger Counter     SMD-AY0202  Surface Mount DPDT Switch (COM-00597)  Used on e.g. LilyPad Arduino USB - ATmega32U4 Board
GateName_1: G$1; SymbolName_1: SWITCH-DPDT; DeviceName: -PTH-GPI-152-3013; PROD_ID: SWCH-10554; LibraryName: SparkFun-Switches; DeviceSetName: SWITCH-DPDT; Package: SWITCH_DPDT_PTH_GPI-152-3013
footprint SWITCH_DPDT_PTH_GPI-152-3013
pins: 10 1 (io), 11 4 (io), 20 3 (io), 21 6 (io), C@1 2 (io), C@2 5 (io)

## SWITCH-DPDT-SMD-AYZ0202
designator S?, comment Double-Pole, Double-Throw (DPDT) Switch    Double-pole, double-throw switches. Variant Overview  PTH-GPI-152-3013  Used on SparkFun Geiger Counter     SMD-AY0202  Surface Mount DPDT Switch (COM-00597)  Used on e.g. LilyPad Arduino USB - ATmega32U4 Board
GateName_1: G$1; SymbolName_1: SWITCH-DPDT; DeviceName: -SMD-AYZ0202; PROD_ID: SWCH-08179; LibraryName: SparkFun-Switches; DeviceSetName: SWITCH-DPDT; Package: SWITCH_DPDT_SMD_AYZ0202; SF_SKU: COM-00597
footprint SWITCH_DPDT_SMD_AYZ0202
pins: 1 (io), 2 (io), 3 (io), 4 (io), 5 (io), 6 (io)

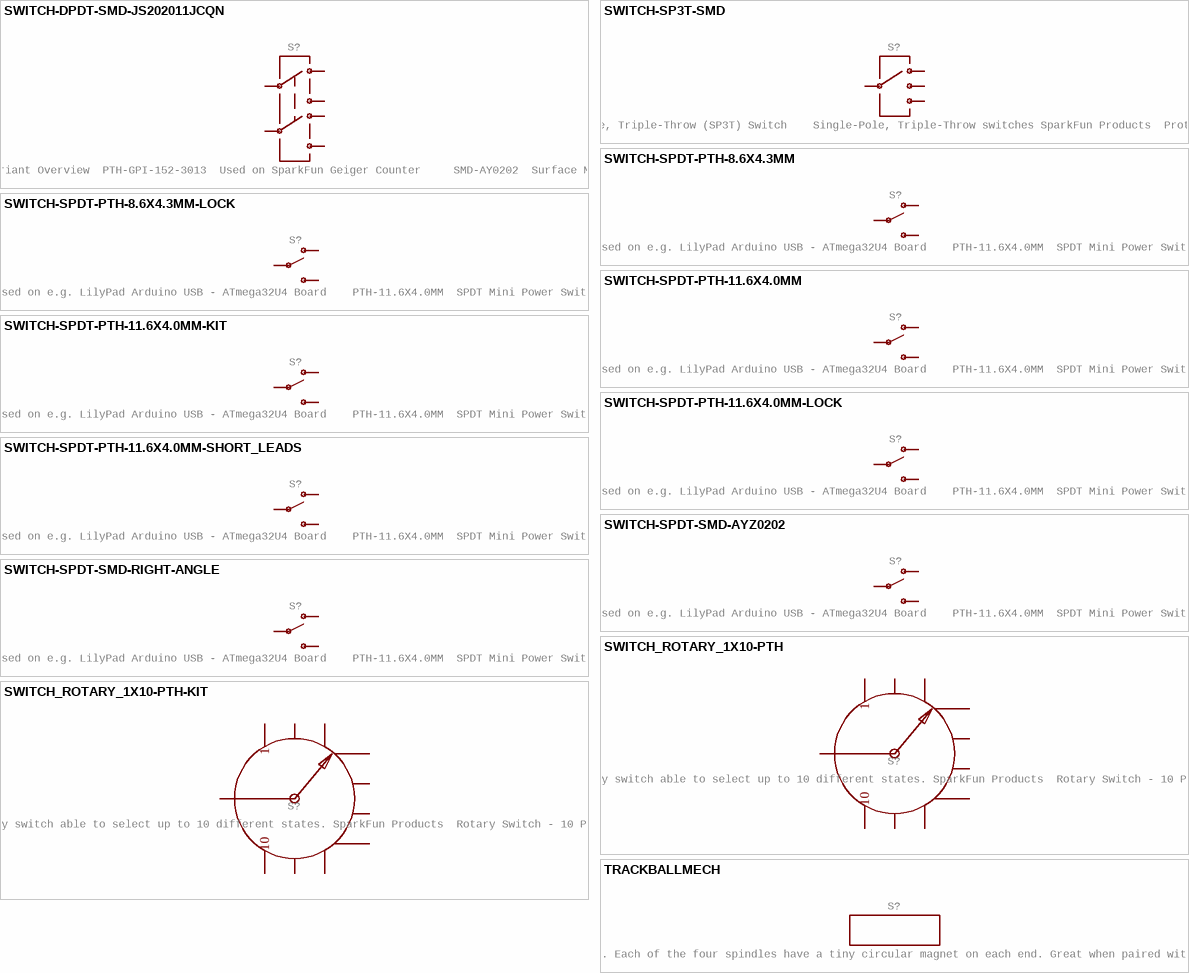
[diagram p35: symbols SWITCH-DPDT-SMD-JS202011JCQN to TRACKBALLMECH]

## SWITCH-DPDT-SMD-JS202011JCQN
designator S?, comment Double-Pole, Double-Throw (DPDT) Switch    Double-pole, double-throw switches. Variant Overview  PTH-GPI-152-3013  Used on SparkFun Geiger Counter     SMD-AY0202  Surface Mount DPDT Switch (COM-00597)  Used on e.g. LilyPad Arduino USB - ATmega32U4 Board
GateName_1: G$1; SymbolName_1: SWITCH-DPDT; DeviceName: -SMD-JS202011JCQN; PROD_ID: SWCH-14133; LibraryName: SparkFun-Switches; DeviceSetName: SWITCH-DPDT; Package: SWITCH_DPDT_SMD_JS202011JCQN
footprint SWITCH_DPDT_SMD_JS202011JCQN
pins: 1 (io), 2 (io), 3 (io), 4 6 (io), 5 (io), 6 4 (io)

## SWITCH-SP3T-SMD
designator S?, comment Single-Pole, Triple-Throw (SP3T) Switch    Single-Pole, Triple-Throw switches SparkFun Products  Prototype Part
GateName_1: G$1; SymbolName_1: SWITCH-SP3T; DeviceName: -SMD; PROD_ID: SWCH-10805; LibraryName: SparkFun-Switches; DeviceSetName: SWITCH-SP3T; Package: SWITCH_SP3T_SMD
footprint SWITCH_SP3T_SMD
pins: 1 (io), 2 (io), 3 (io), 4 (io)

## SWITCH-SPDT-PTH-8.6X4.3MM
designator S?, comment Single Pole, Double Throw (SPDT) Switch    Single-pole, double-throw (SPDT) switch. Variant Overview  SMD-AYZ0202  Surface Mount DPDT Switch (COM-00597)  Used on e.g. LilyPad Arduino USB - ATmega32U4 Board    PTH-11.6X4.0MM  SPDT Mini Power Switch (COM-00102)  Used on e.g. SparkFun Simon Says - Through-Hole Soldering Kit (KIT-10547)     PTH-11.6X4.0MM-KIT  KIT version of SPDT Mini Power Switch - Simplifies soldering by removing tStop of switch pins - only one side can be soldered.     PTH-11.6X4.0MM-LOCK  LOCK version of SPDT Mini Power Switch - Offset pins hold switch in place for easier soldering.     SMD-RIGHT-ANGLE  Surface Mount Right Angle Switch (COM-10860)  Used on e.g. SparkFun ESP8266 Thing
GateName_1: 1; SymbolName_1: TOGGLE; DeviceName: -PTH-8.6X4.3MM; DeviceSetName: SWITCH-SPDT; PROD_ID: SWCH-14746; LibraryName: SparkFun-Switches; Package: SWITCH_SPDT_8.6X4.3MM
footprint SWITCH_SPDT_8.6X4.3MM
pins: 1 O, 2 P, 3 S

## SWITCH-SPDT-PTH-8.6X4.3MM-LOCK
designator S?, comment Single Pole, Double Throw (SPDT) Switch    Single-pole, double-throw (SPDT) switch. Variant Overview  SMD-AYZ0202  Surface Mount DPDT Switch (COM-00597)  Used on e.g. LilyPad Arduino USB - ATmega32U4 Board    PTH-11.6X4.0MM  SPDT Mini Power Switch (COM-00102)  Used on e.g. SparkFun Simon Says - Through-Hole Soldering Kit (KIT-10547)     PTH-11.6X4.0MM-KIT  KIT version of SPDT Mini Power Switch - Simplifies soldering by removing tStop of switch pins - only one side can be soldered.     PTH-11.6X4.0MM-LOCK  LOCK version of SPDT Mini Power Switch - Offset pins hold switch in place for easier soldering.     SMD-RIGHT-ANGLE  Surface Mount Right Angle Switch (COM-10860)  Used on e.g. SparkFun ESP8266 Thing
GateName_1: 1; SymbolName_1: TOGGLE; DeviceName: -PTH-8.6X4.3MM-LOCK; DeviceSetName: SWITCH-SPDT; PROD_ID: SWCH-14746; LibraryName: SparkFun-Switches; Package: SWITCH_SPDT_8.6X4.3MM_LOCK
footprint SWITCH_SPDT_8.6X4.3MM_LOCK
pins: 1 O, 2 P, 3 S

## SWITCH-SPDT-PTH-11.6X4.0MM
designator S?, comment Single Pole, Double Throw (SPDT) Switch    Single-pole, double-throw (SPDT) switch. Variant Overview  SMD-AYZ0202  Surface Mount DPDT Switch (COM-00597)  Used on e.g. LilyPad Arduino USB - ATmega32U4 Board    PTH-11.6X4.0MM  SPDT Mini Power Switch (COM-00102)  Used on e.g. SparkFun Simon Says - Through-Hole Soldering Kit (KIT-10547)     PTH-11.6X4.0MM-KIT  KIT version of SPDT Mini Power Switch - Simplifies soldering by removing tStop of switch pins - only one side can be soldered.     PTH-11.6X4.0MM-LOCK  LOCK version of SPDT Mini Power Switch - Offset pins hold switch in place for easier soldering.     SMD-RIGHT-ANGLE  Surface Mount Right Angle Switch (COM-10860)  Used on e.g. SparkFun ESP8266 Thing
GateName_1: 1; SymbolName_1: TOGGLE; DeviceName: -PTH-11.6X4.0MM; DeviceSetName: SWITCH-SPDT; PROD_ID: SWCH-08261; LibraryName: SparkFun-Switches; Package: SWITCH_SPDT_PTH_11.6X4.0MM; SF_SKU: COM-00102
footprint SWITCH_SPDT_PTH_11.6X4.0MM
pins: 1 O, 2 P, 3 S

## SWITCH-SPDT-PTH-11.6X4.0MM-KIT
designator S?, comment Single Pole, Double Throw (SPDT) Switch    Single-pole, double-throw (SPDT) switch. Variant Overview  SMD-AYZ0202  Surface Mount DPDT Switch (COM-00597)  Used on e.g. LilyPad Arduino USB - ATmega32U4 Board    PTH-11.6X4.0MM  SPDT Mini Power Switch (COM-00102)  Used on e.g. SparkFun Simon Says - Through-Hole Soldering Kit (KIT-10547)     PTH-11.6X4.0MM-KIT  KIT version of SPDT Mini Power Switch - Simplifies soldering by removing tStop of switch pins - only one side can be soldered.     PTH-11.6X4.0MM-LOCK  LOCK version of SPDT Mini Power Switch - Offset pins hold switch in place for easier soldering.     SMD-RIGHT-ANGLE  Surface Mount Right Angle Switch (COM-10860)  Used on e.g. SparkFun ESP8266 Thing
GateName_1: 1; SymbolName_1: TOGGLE; DeviceName: -PTH-11.6X4.0MM-KIT; DeviceSetName: SWITCH-SPDT; PROD_ID: SWCH-08261; LibraryName: SparkFun-Switches; Package: SWITCH_SPDT_PTH_11.6X4.0MM_KIT; SF_SKU: COM-00102
footprint SWITCH_SPDT_PTH_11.6X4.0MM_KIT
pins: 1 O, 2 P, 3 S

## SWITCH-SPDT-PTH-11.6X4.0MM-LOCK
designator S?, comment Single Pole, Double Throw (SPDT) Switch    Single-pole, double-throw (SPDT) switch. Variant Overview  SMD-AYZ0202  Surface Mount DPDT Switch (COM-00597)  Used on e.g. LilyPad Arduino USB - ATmega32U4 Board    PTH-11.6X4.0MM  SPDT Mini Power Switch (COM-00102)  Used on e.g. SparkFun Simon Says - Through-Hole Soldering Kit (KIT-10547)     PTH-11.6X4.0MM-KIT  KIT version of SPDT Mini Power Switch - Simplifies soldering by removing tStop of switch pins - only one side can be soldered.     PTH-11.6X4.0MM-LOCK  LOCK version of SPDT Mini Power Switch - Offset pins hold switch in place for easier soldering.     SMD-RIGHT-ANGLE  Surface Mount Right Angle Switch (COM-10860)  Used on e.g. SparkFun ESP8266 Thing
GateName_1: 1; SymbolName_1: TOGGLE; DeviceName: -PTH-11.6X4.0MM-LOCK; DeviceSetName: SWITCH-SPDT; PROD_ID: SWCH-08261; LibraryName: SparkFun-Switches; Package: SWITCH_SPDT_PTH_11.6X4.0MM_LOCK; SF_SKU: COM-00102
footprint SWITCH_SPDT_PTH_11.6X4.0MM_LOCK
pins: 1 O, 2 P, 3 S

## SWITCH-SPDT-PTH-11.6X4.0MM-SHORT_LEADS
designator S?, comment Single Pole, Double Throw (SPDT) Switch    Single-pole, double-throw (SPDT) switch. Variant Overview  SMD-AYZ0202  Surface Mount DPDT Switch (COM-00597)  Used on e.g. LilyPad Arduino USB - ATmega32U4 Board    PTH-11.6X4.0MM  SPDT Mini Power Switch (COM-00102)  Used on e.g. SparkFun Simon Says - Through-Hole Soldering Kit (KIT-10547)     PTH-11.6X4.0MM-KIT  KIT version of SPDT Mini Power Switch - Simplifies soldering by removing tStop of switch pins - only one side can be soldered.     PTH-11.6X4.0MM-LOCK  LOCK version of SPDT Mini Power Switch - Offset pins hold switch in place for easier soldering.     SMD-RIGHT-ANGLE  Surface Mount Right Angle Switch (COM-10860)  Used on e.g. SparkFun ESP8266 Thing
GateName_1: 1; SymbolName_1: TOGGLE; DeviceName: -PTH-11.6X4.0MM-SHORT_LEADS; DeviceSetName: SWITCH-SPDT; PROD_ID: SWCH-13151; LibraryName: SparkFun-Switches; Package: SWITCH_SPDT_PTH_11.6X4.0MM
footprint SWITCH_SPDT_PTH_11.6X4.0MM
pins: 1 O, 2 P, 3 S

## SWITCH-SPDT-SMD-AYZ0202
designator S?, comment Single Pole, Double Throw (SPDT) Switch    Single-pole, double-throw (SPDT) switch. Variant Overview  SMD-AYZ0202  Surface Mount DPDT Switch (COM-00597)  Used on e.g. LilyPad Arduino USB - ATmega32U4 Board    PTH-11.6X4.0MM  SPDT Mini Power Switch (COM-00102)  Used on e.g. SparkFun Simon Says - Through-Hole Soldering Kit (KIT-10547)     PTH-11.6X4.0MM-KIT  KIT version of SPDT Mini Power Switch - Simplifies soldering by removing tStop of switch pins - only one side can be soldered.     PTH-11.6X4.0MM-LOCK  LOCK version of SPDT Mini Power Switch - Offset pins hold switch in place for easier soldering.     SMD-RIGHT-ANGLE  Surface Mount Right Angle Switch (COM-10860)  Used on e.g. SparkFun ESP8266 Thing
GateName_1: 1; SymbolName_1: TOGGLE; DeviceName: -SMD-AYZ0202; DeviceSetName: SWITCH-SPDT; PROD_ID: SWCH-08179; LibraryName: SparkFun-Switches; Package: SWITCH_DPDT_SMD_AYZ0202; SF_ID: COM-00597
footprint SWITCH_DPDT_SMD_AYZ0202
pins: 1 O, 2 P, 3 S

## SWITCH-SPDT-SMD-RIGHT-ANGLE
designator S?, comment Single Pole, Double Throw (SPDT) Switch    Single-pole, double-throw (SPDT) switch. Variant Overview  SMD-AYZ0202  Surface Mount DPDT Switch (COM-00597)  Used on e.g. LilyPad Arduino USB - ATmega32U4 Board    PTH-11.6X4.0MM  SPDT Mini Power Switch (COM-00102)  Used on e.g. SparkFun Simon Says - Through-Hole Soldering Kit (KIT-10547)     PTH-11.6X4.0MM-KIT  KIT version of SPDT Mini Power Switch - Simplifies soldering by removing tStop of switch pins - only one side can be soldered.     PTH-11.6X4.0MM-LOCK  LOCK version of SPDT Mini Power Switch - Offset pins hold switch in place for easier soldering.     SMD-RIGHT-ANGLE  Surface Mount Right Angle Switch (COM-10860)  Used on e.g. SparkFun ESP8266 Thing
GateName_1: 1; SymbolName_1: TOGGLE; DeviceName: -SMD-RIGHT-ANGLE; DeviceSetName: SWITCH-SPDT; PROD_ID: SWCH-10651; LibraryName: SparkFun-Switches; Package: SWITCH_SPST_SMD_A; SF_SKU: COM-10860
footprint SWITCH_SPST_SMD_A
pins: 1 O, 2 P, 3 S

## SWITCH_ROTARY_1X10-PTH
designator S?, comment 10-Position Rotary Switch    Single pole, 10 position rotary switch able to select up to 10 different states. SparkFun Products  Rotary Switch - 10 Position (COM-13253)  Used on SparkFun Decade Resistance Box
GateName_1: G$1; SymbolName_1: ROTARY-SWITCH-1X10; DeviceName: -PTH; DeviceSetName: SWITCH_ROTARY_1X10; PROD_ID: SWCH-12120; LibraryName: SparkFun-Switches; Package: ROTARY_SWITCH_1X10; SF_SKU: COM-13253
footprint ROTARY_SWITCH_1X10
pins: 1 (io), 2 (io), 3 (io), 4 (io), 5 (io), 6 (io), 7 (io), 8 (io), 9 (io), 10 (io), COMMON (io)

## SWITCH_ROTARY_1X10-PTH-KIT
designator S?, comment 10-Position Rotary Switch    Single pole, 10 position rotary switch able to select up to 10 different states. SparkFun Products  Rotary Switch - 10 Position (COM-13253)  Used on SparkFun Decade Resistance Box
GateName_1: G$1; SymbolName_1: ROTARY-SWITCH-1X10; DeviceName: -PTH-KIT; DeviceSetName: SWITCH_ROTARY_1X10; PROD_ID: SWCH-12120; LibraryName: SparkFun-Switches; Package: ROTARY_SWITCH_1X10_KIT; SF_SKU: COM-13253
footprint ROTARY_SWITCH_1X10_KIT
pins: 1 (io), 2 (io), 3 (io), 4 (io), 5 (io), 6 (io), 7 (io), 8 (io), 9 (io), 10 (io), COMMON (io)

## TRACKBALLMECH
designator S?, comment Trackball - Mechanical    This is a tiny trackball akin to those found on a number of Blackberry models (8100, 8300, 8320, 8800, 8830, etc). Each of the four spindles have a tiny circular magnet on each end. Great when paired with very small SMD Hall effect sensors. SparkFun Products  Blackberry Trackball (COM-09308)  Used on SparkFun Blackberry Trackballer Breakout
GateName_1: G$1; DeviceName: MECH; PROD_ID: COMP-09237; SymbolName_1: TRACKBALL; LibraryName: SparkFun-Switches; DeviceSetName: TRACKBALL; Package: TRACKBALL; SF_SKU: COM-09308
footprint TRACKBALL